# Altium footprint library ADF4351_PLL.PcbLib: 11 footprints
Each footprint in its own frame and in the unit in brackets; x right, y up, seen from the top. Pads: shape width x height; smd on the part's side, far side on the other; paste and mask are expansions set on the pad; w line width, h text height; cw(c..) or ccw(c..) is an arc to the next point about the centre after c.
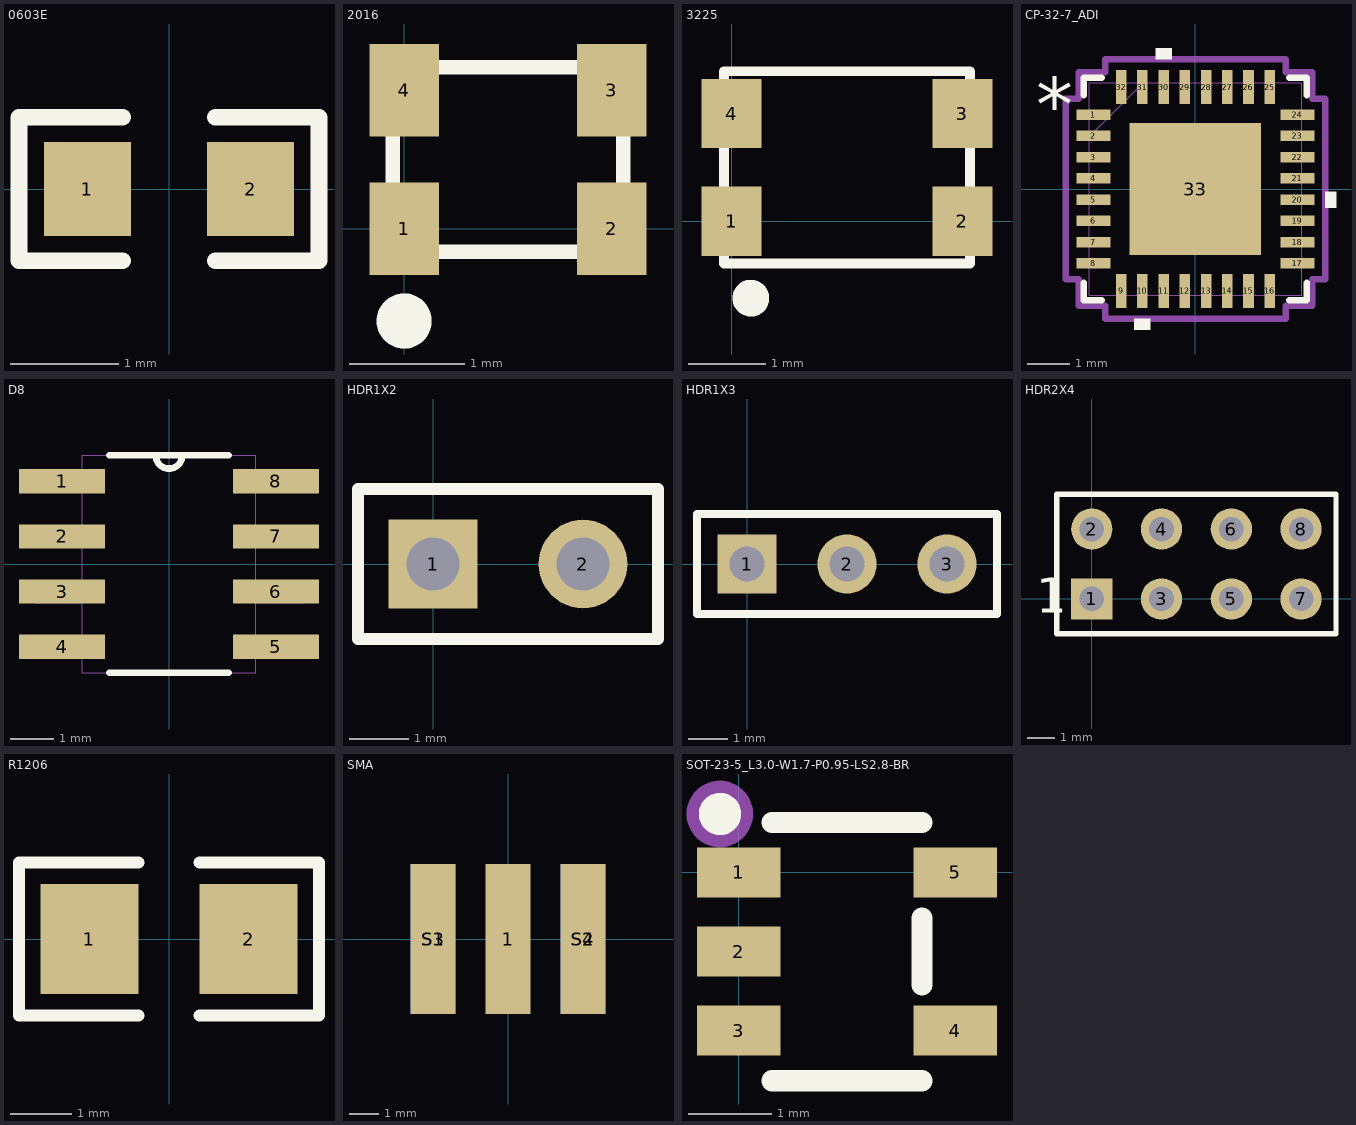
[diagram p0: the footprints below, top view; thin cyan lines are the x and y axes]

## 0603E [mm]
height 0.55
pads (2):
  rect 0.806x0.864 smd: 1(-0.753,0) 2(0.753,0)
Top Overlay:
  lines w0.152: -0.426,-0.661 -1.385,-0.661 -1.385,0.661 -0.426,0.661 ; 0.426,-0.661 1.385,-0.661 1.385,0.661 0.426,0.661
Top Paste:
  region: 1.195,0.45 0.395,0.45 0.345,0.4 0.345,0.172 0.715,0.172 0.715,-0.158 0.345,-0.158 0.345,-0.4 0.395,-0.45 1.195,-0.45 1.245,-0.4 1.245,0.4
  region: -0.355,0.4 -0.355,0.172 -0.735,0.172 -0.735,-0.158 -0.355,-0.158 -0.355,-0.4 -0.405,-0.45 -1.195,-0.45 -1.245,-0.4 -1.245,0.4 -1.195,0.45 -0.405,0.45

## 2016 [mm]
height 0.55
pads (4):
  rect 0.6x0.8 smd: 1(0,0) 2(1.8,0) 3(1.8,1.2) 4(0,1.2)
Top Overlay:
  circle w0.254: c0,-0.8 r0.112
  lines w0.127: -0.1,-0.2 -0.1,1.4 1.9,1.4 1.9,-0.2 -0.1,-0.2

## 3225 [mm]
pads (4):
  rect 0.78x0.9 smd: 1(0,0) 2(3,0) 3(3,1.4) 4(0,1.4)
Top Overlay:
  circle w0.254: c0.25,-1 r0.112
  lines w0.127: -0.1,-0.55 3.1,-0.55 3.1,1.95 -0.1,1.95 -0.1,-0.55

## CP-32-7_ADI [mm]
pads (33):
  rect 0.805x0.249 smd paste+0 mask+0: 1(-2.402,1.75) 2(-2.402,1.25) 3(-2.402,0.75) 4(-2.402,0.25) 5(-2.402,-0.25) 6(-2.402,-0.75) 7(-2.402,-1.25) 8(-2.402,-1.75) 17(2.402,-1.75) 18(2.402,-1.25) 19(2.402,-0.75) 20(2.402,-0.25) 21(2.402,0.25) 22(2.402,0.75) 23(2.402,1.25) 24(2.402,1.75)
  rect 0.249x0.805 smd paste+0 mask+0: 9(-1.75,-2.402) 10(-1.25,-2.402) 11(-0.75,-2.402) 12(-0.25,-2.402) 13(0.25,-2.402) 14(0.75,-2.402) 15(1.25,-2.402) 16(1.75,-2.402) 25(1.75,2.402) 26(1.25,2.402) 27(0.75,2.402) 28(0.25,2.402) 29(-0.25,2.402) 30(-0.75,2.402) 31(-1.25,2.402) 32(-1.75,2.402)
  rect 3.1x3.1 smd mask-1.537: 33(0,0)
Top Overlay:
  region: -1.06,-3.059 -1.441,-3.059 -1.441,-3.313 -1.06,-3.313
  region: 3.059,-0.059 3.313,-0.059 3.313,-0.44 3.059,-0.44
  region: -0.56,3.059 -0.941,3.059 -0.941,3.313 -0.56,3.313
  lines w0.152: -2.627,-2.207 -2.627,-2.627 -2.207,-2.627 ; -2.627,2.207 -2.627,2.627 -2.207,2.627 ; 2.207,-2.627 2.627,-2.627 2.627,-2.207 ; 2.207,2.627 2.627,2.627 2.627,2.207
  text "*" at -3.757,1.365 h1.27
Top Paste:
  region: -0.1,1.45 -1.45,1.45 -1.45,0.1 -0.1,0.1
  region: -0.1,-0.1 -1.45,-0.1 -1.45,-1.45 -0.1,-1.45
  region: 1.45,1.45 0.1,1.45 0.1,0.1 1.45,0.1
  region: 1.45,-0.1 0.1,-0.1 0.1,-1.45 1.45,-1.45
Top Solder:
  rectangle: -1.549,-1.549 1.549,1.549
Mechanical 13:
  lines w0.025: -2.5,1.23 -1.23,2.5 ; -2.5,-2.5 2.5,-2.5 2.5,2.5 -2.5,2.5 -2.5,-2.5 ; -2.5,-1.9 -2.5,-1.6 -2.5,-1.9 ; -2.5,-1.4 -2.5,-1.1 -2.5,-1.4 ; -2.5,-0.9 -2.5,-0.6 -2.5,-0.9 ; -2.5,-0.4 -2.5,-0.1 -2.5,-0.4 ; -2.5,0.1 -2.5,0.4 -2.5,0.1 ; -2.5,0.6 -2.5,0.9 -2.5,0.6 ; -2.5,1.1 -2.5,1.4 -2.5,1.1 ; -2.5,1.6 -2.5,1.9 -2.5,1.6 ; -1.9,-2.5 -1.6,-2.5 -1.9,-2.5 ; -1.9,2.5 -1.6,2.5 -1.9,2.5 ; -1.4,-2.5 -1.1,-2.5 -1.4,-2.5 ; -1.4,2.5 -1.1,2.5 -1.4,2.5 ; -0.9,-2.5 -0.6,-2.5 -0.9,-2.5 ; -0.9,2.5 -0.6,2.5 -0.9,2.5 ; -0.4,-2.5 -0.1,-2.5 -0.4,-2.5 ; -0.4,2.5 -0.1,2.5 -0.4,2.5 ; 0.1,-2.5 0.4,-2.5 0.1,-2.5 ; 0.1,2.5 0.4,2.5 0.1,2.5 ; 0.6,-2.5 0.9,-2.5 0.6,-2.5 ; 0.6,2.5 0.9,2.5 0.6,2.5 ; 1.1,-2.5 1.4,-2.5 1.1,-2.5 ; 1.1,2.5 1.4,2.5 1.1,2.5 ; 1.6,-2.5 1.9,-2.5 1.6,-2.5 ; 1.6,2.5 1.9,2.5 1.6,2.5 ; 2.5,-1.9 2.5,-1.6 2.5,-1.9 ; 2.5,-1.4 2.5,-1.1 2.5,-1.4 ; 2.5,-0.9 2.5,-0.6 2.5,-0.9 ; 2.5,-0.4 2.5,-0.1 2.5,-0.4 ; 2.5,0.1 2.5,0.4 2.5,0.1 ; 2.5,0.6 2.5,0.9 2.5,0.6 ; 2.5,1.1 2.5,1.4 2.5,1.1 ; 2.5,1.6 2.5,1.9 2.5,1.6
  text "*" at -3.757,1.367 h1.27
Mechanical 15:
  lines w0.152: -3.059,-2.129 -2.754,-2.129 -2.754,-2.754 -2.129,-2.754 -2.129,-3.059 2.129,-3.059 2.129,-2.754 2.754,-2.754 2.754,-2.129 3.059,-2.129 3.059,2.129 2.754,2.129 2.754,2.754 2.129,2.754 2.129,3.059 -2.129,3.059 -2.129,2.754 -2.754,2.754 -2.754,2.129 -3.059,2.129 -3.059,-2.129

## D8 [mil]
height 21.65
pads (8):
  rect 78x22 smd: 1(-97,75) 2(-97,25) 3(-97,-25) 4(-97,-75) 5(97,-75) 6(97,-25) 7(97,25) 8(97,75)
Top Overlay:
  lines w6: -54.08,-98.5 54.08,-98.5 ; -54.08,98.5 54.08,98.5 ; -12,98.5 ccw(c0,98.5) 12,98.5
Mechanical 13:
  lines w0: -12,98.5 ccw(c0,98.5) 12,98.5
  lines w1: -122,-85 -78.5,-85 -78.5,-65 -122,-65 -122,-85 ; -122,-35 -78.5,-35 -78.5,-15 -122,-15 -122,-35 ; -122,15 -78.5,15 -78.5,35 -122,35 -122,15 ; -122,65 -78.5,65 -78.5,85 -122,85 -122,65 ; -78.5,-98.5 -78.5,98.5 78.5,98.5 78.5,-98.5 -78.5,-98.5 ; 78.5,-85 122,-85 122,-65 78.5,-65 78.5,-85 ; 78.5,-35 122,-35 122,-15 78.5,-15 78.5,-35 ; 78.5,15 122,15 122,35 78.5,35 78.5,15 ; 78.5,65 122,65 122,85 78.5,85 78.5,65

## HDR1X2 [mm] "Connector; Header; 2 Position"
height 0.55
pads (2):
  rect 1.5x1.5 hole 0.9: 1(0,0)
  round 1.5 hole 0.9: 2(2.54,0)
Top Overlay:
  lines w0.2: -1.27,-1.27 3.81,-1.27 3.81,1.27 -1.27,1.27 -1.27,-1.27

## HDR1X3 [mm] "Connector; Header; 3 Position"
height 0.55
pads (3):
  rect 1.5x1.5 hole 0.9: 1(0,0)
  round 1.5 hole 0.9: 2(2.54,0) 3(5.08,0)
Top Overlay:
  lines w0.2: -1.27,-1.27 6.35,-1.27 6.35,1.27 -1.27,1.27 -1.27,-1.27

## HDR2X4 [mm] "Connector; Header; 4x2 Position"
height 0.55
pads (8):
  rect 1.5x1.5 hole 0.9: 1(0,0)
  round 1.5 hole 0.9: 2(0,2.54) 3(2.54,0) 4(2.54,2.54) 5(5.08,0) 6(5.08,2.54) 7(7.62,0) 8(7.62,2.54)
Top Overlay:
  lines w0.2: -1.27,-1.27 8.89,-1.27 8.89,3.81 -1.27,3.81 -1.27,-1.27
  text "1" at -2.032,-0.508 h1.27

## R1206 [mm]
height 1.5
pads (2):
  rect 1.6x1.8 smd: 1(-1.301,0) 2(1.299,0)
Top Overlay:
  lines w0.2: -0.5,-1.25 -2.45,-1.25 -2.45,1.25 -0.5,1.25 ; 0.5,-1.25 2.45,-1.25 2.45,1.25 0.5,1.25
3D body: height 1, standoff 0, extent -1.605,-0.79 1.595,0.81

## SMA [mm]
pads (5):
  rect 1.52x5.08 smd: 1(0,0) S1(-2.54,0) S2(2.54,0)
  rect 1.52x5.08 smd far side: S3(-2.54,0) S4(2.54,0)

## SOT-23-5_L3.0-W1.7-P0.95-LS2.8-BR [mm]
pads (5):
  rect 1x0.6 smd: 1(0,0) 2(0,-0.95) 3(0,-1.9) 4(2.6,-1.9) 5(2.6,0)
Top Overlay:
  circle w0.254: c-0.224,0.701 r0.127
  lines w0.254: 0.4,-2.5 2.2,-2.5 ; 0.4,0.6 2.2,0.6 ; 2.2,-1.35 2.2,-0.55
Mechanical 15:
  circle w0.4: c-0.227,0.701 r0.2